# EAGLE library part DIL14_IMPLANT (library _motovilo)
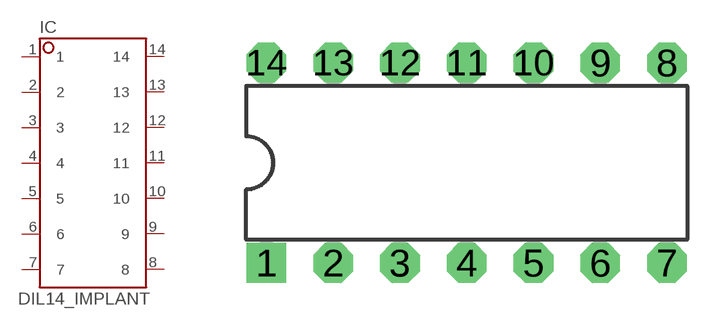
[diagram p28: symbol with the pads of DIL-14_IMPLANT; footprint DIL-14_IMPLANT]

Designator prefix IC

## DIL14_IMPLANT  [DIL-14_IMPLANT]
1  1
2  2
3  3
4  4
5  5
6  6
7  7
8  8
9  9
10  10
11  11
12  12
13  13
14  14

## Footprint DIL-14_IMPLANT (pad centres in mm)
drill 1 square: 1 -7.62,-3.81
drill 1 octagon: 2 -5.08,-3.81; 3 -2.54,-3.81; 4 0,-3.81; 5 2.54,-3.81; 6 5.08,-3.81; 7 7.62,-3.81; 8 7.62,3.81; 9 5.08,3.81; 10 2.54,3.81; 11 0,3.81; 12 -2.54,3.81; 13 -5.08,3.81; 14 -7.62,3.81